# Altium integrated library RS_Diodes.IntLib: 3 symbols
Pins are listed as number, name and electrical type; pins without a type are passive.

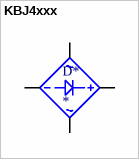
[diagram p0: symbol KBJ4xxx]

## KBJ4xxx
designator D*
Full bridge rectifier
footprint 4KBJ
pins: 1 OUT2, 2 IN2, 3 IN1, 4 OUT1


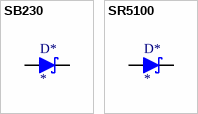
[diagram p1: symbols SB230 to SR5100]

## SB230
designator D*
footprint DO-15
pins: 1 A, 2 K

## SR5100
designator D*
footprint DO-201
pins: 1 A, 2 K